# Altium integrated library Micron Memory Parallel NOR Flash.IntLib: 720 symbols (part 213 of 216)
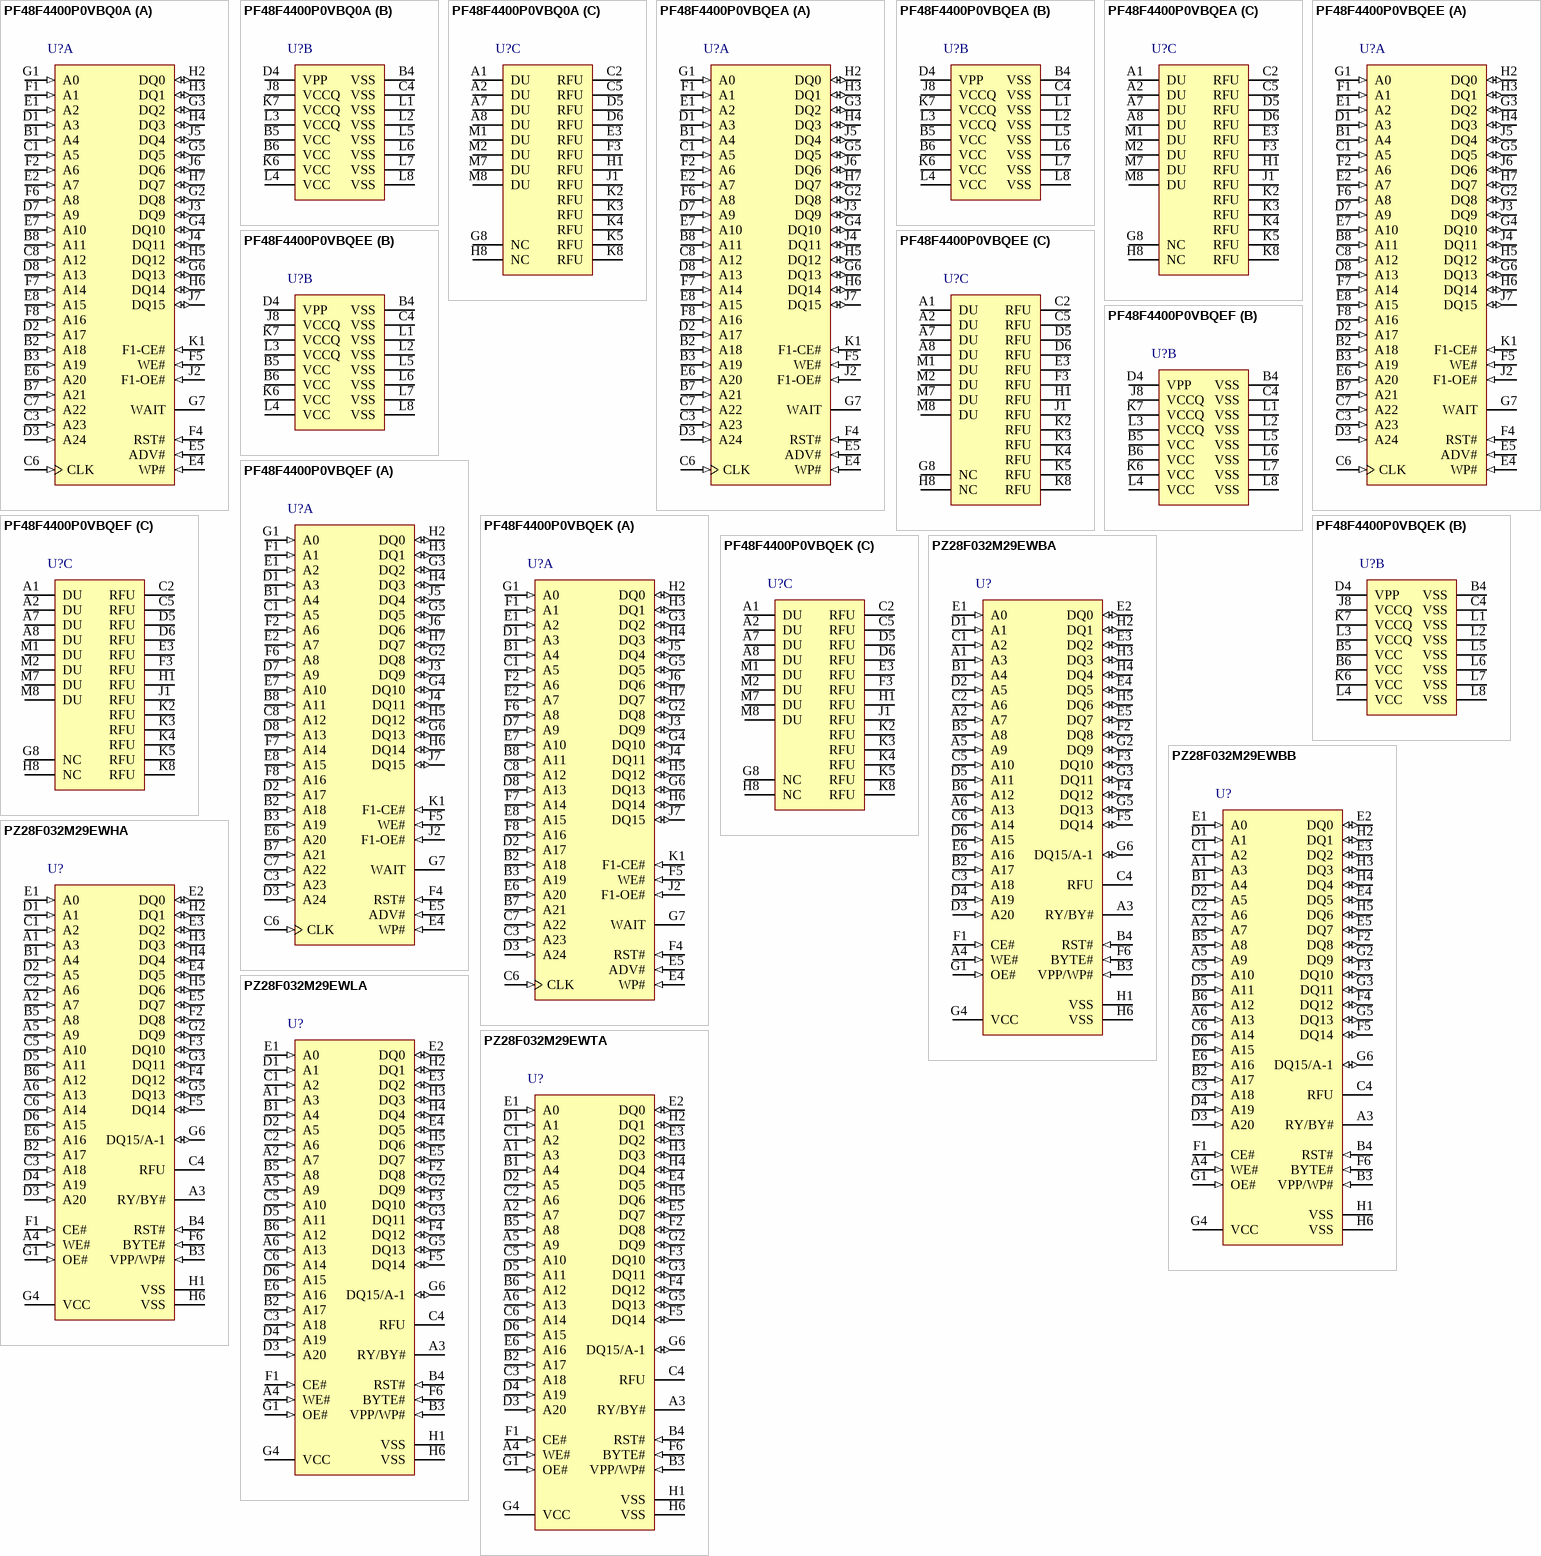
[diagram p242: symbols PF48F4400P0VBQ0A to PZ28F032M29EWTA]

## PF48F4400P0VBQ0A
designator U?
512 Mb (x16) Parallel NOR Flash Memory, 85 ns, 1.7 to 2.0 V, 88-ball Quad+ BGA (PF), Tray; Part Family: P30; Manufacturer: Micron; PartNumber: PF48F4400P0VBQ0A; Density: 512Mb; Op Temp: -40C to +85C; Speed: 85ns; Voltage: 1.7V-2.0V; DatasheetVersion: Rev. 12; PackageVersion: Rev. 12; PackageReference: MICT-PF-88-11000X8000X1200DEA; PackageDescription: 88-Ball Quad+ BGA, 11 x 8 mm, Pitch 0.8 mm; RoHS: Yes; Width: x16; Mounting Technology: Surface Mount; ComponentLink1Description: Manufacturer URL; ComponentLink1URL: http://www.micron.com/; ComponentLink2Description: Datasheet; ComponentLink2URL: http://www.micron.com/~/media/Documents/Products/Data%20Sheet/NOR%20Flash/Parallel/P33/320003_P33_65nm_MLC_256MDiscrete_512MStack_DS.pdf; ComponentLink3Description: Package Specification; ComponentLink3URL: http://www.micron.com/~/media/Documents/Products/Data%20Sheet/NOR%20Flash/Parallel/P33/320003_P33_65nm_MLC_256MDiscrete_512MStack_DS.pdf
footprint MICT-PF-88-11000X8000X1200DEA (BGA, 88-Balls, Body 11x8mm, Pitch 0.8mm)
part A pins: B1 A4 (in) "Address Input: Device Address Input. 64-Mbit: A[21:0]; 128-Mbit: A[22:0]; 256-Mbit:  A[23:0]; 512-Mbit: A[24:0]. Note: The virtual selection of the 256-Mbit "Top parameter" die in the  dual-die 512-Mbit configuration is (See Datasheet)", B2 A18 (in) "Address Input: Device Address Input. 64-Mbit: A[21:0]; 128-Mbit: A[22:0]; 256-Mbit:  A[23:0]; 512-Mbit: A[24:0]. Note: The virtual selection of the 256-Mbit "Top parameter" die in the  dual-die 512-Mbit configuration is (See Datasheet)", B3 A19 (in) "Address Input: Device Address Input. 64-Mbit: A[21:0]; 128-Mbit: A[22:0]; 256-Mbit:  A[23:0]; 512-Mbit: A[24:0]. Note: The virtual selection of the 256-Mbit "Top parameter" die in the  dual-die 512-Mbit configuration is (See Datasheet)", B7 A21 (in) "Address Input: Device Address Input. 64-Mbit: A[21:0]; 128-Mbit: A[22:0]; 256-Mbit:  A[23:0]; 512-Mbit: A[24:0]. Note: The virtual selection of the 256-Mbit "Top parameter" die in the  dual-die 512-Mbit configuration is (See Datasheet)", B8 A11 (in) "Address Input: Device Address Input. 64-Mbit: A[21:0]; 128-Mbit: A[22:0]; 256-Mbit:  A[23:0]; 512-Mbit: A[24:0]. Note: The virtual selection of the 256-Mbit "Top parameter" die in the  dual-die 512-Mbit configuration is (See Datasheet)", C1 A5 (in) "Address Input: Device Address Input. 64-Mbit: A[21:0]; 128-Mbit: A[22:0]; 256-Mbit:  A[23:0]; 512-Mbit: A[24:0]. Note: The virtual selection of the 256-Mbit "Top parameter" die in the  dual-die 512-Mbit configuration is (See Datasheet)", C3 A23 (in) "Address Input: Device Address Input. 64-Mbit: A[21:0]; 128-Mbit: A[22:0]; 256-Mbit:  A[23:0]; 512-Mbit: A[24:0]. Note: The virtual selection of the 256-Mbit "Top parameter" die in the  dual-die 512-Mbit configuration is (See Datasheet)", C6 CLK (in) "CLOCK: Synchronizes the device with the system’s bus frequency in synchronous-read mode. During  synchronous read operations, addresses are latched on the rising edge of ADV#, or on the next valid  CLK edge with ADV# low, (See Datasheet)", C7 A22 (in) "Address Input: Device Address Input. 64-Mbit: A[21:0]; 128-Mbit: A[22:0]; 256-Mbit:  A[23:0]; 512-Mbit: A[24:0]. Note: The virtual selection of the 256-Mbit "Top parameter" die in the  dual-die 512-Mbit configuration is (See Datasheet)", C8 A12 (in) "Address Input: Device Address Input. 64-Mbit: A[21:0]; 128-Mbit: A[22:0]; 256-Mbit:  A[23:0]; 512-Mbit: A[24:0]. Note: The virtual selection of the 256-Mbit "Top parameter" die in the  dual-die 512-Mbit configuration is (See Datasheet)", D1 A3 (in) "Address Input: Device Address Input. 64-Mbit: A[21:0]; 128-Mbit: A[22:0]; 256-Mbit:  A[23:0]; 512-Mbit: A[24:0]. Note: The virtual selection of the 256-Mbit "Top parameter" die in the  dual-die 512-Mbit configuration is (See Datasheet)", D2 A17 (in) "Address Input: Device Address Input. 64-Mbit: A[21:0]; 128-Mbit: A[22:0]; 256-Mbit:  A[23:0]; 512-Mbit: A[24:0]. Note: The virtual selection of the 256-Mbit "Top parameter" die in the  dual-die 512-Mbit configuration is (See Datasheet)", D3 A24 (in) "Address Input: Device Address Input. 64-Mbit: A[21:0]; 128-Mbit: A[22:0]; 256-Mbit:  A[23:0]; 512-Mbit: A[24:0]. Note: The virtual selection of the 256-Mbit "Top parameter" die in the  dual-die 512-Mbit configuration is (See Datasheet)", D7 A9 (in) "Address Input: Device Address Input. 64-Mbit: A[21:0]; 128-Mbit: A[22:0]; 256-Mbit:  A[23:0]; 512-Mbit: A[24:0]. Note: The virtual selection of the 256-Mbit "Top parameter" die in the  dual-die 512-Mbit configuration is (See Datasheet)", D8 A13 (in) "Address Input: Device Address Input. 64-Mbit: A[21:0]; 128-Mbit: A[22:0]; 256-Mbit:  A[23:0]; 512-Mbit: A[24:0]. Note: The virtual selection of the 256-Mbit "Top parameter" die in the  dual-die 512-Mbit configuration is (See Datasheet)", E1 A2 (in) "Address Input: Device Address Input. 64-Mbit: A[21:0]; 128-Mbit: A[22:0]; 256-Mbit:  A[23:0]; 512-Mbit: A[24:0]. Note: The virtual selection of the 256-Mbit "Top parameter" die in the  dual-die 512-Mbit configuration is (See Datasheet)", E2 A7 (in) "Address Input: Device Address Input. 64-Mbit: A[21:0]; 128-Mbit: A[22:0]; 256-Mbit:  A[23:0]; 512-Mbit: A[24:0]. Note: The virtual selection of the 256-Mbit "Top parameter" die in the  dual-die 512-Mbit configuration is (See Datasheet)", E4 WP# (in) "WRITE PROTECT: Active low input. WP# low enables the lock-down mechanism. Blocks in lockdown cannot be unlocked with the Unlock command. WP# high overrides the lock-down function  enabling blocks to be erased or programmed (See Datasheet)", E5 ADV# (in) "ADDRESS VALID: Active low input. During synchronous read operations, addresses are latched on  the rising edge of ADV#, or on the next valid CLK edge with ADV# low, whichever occurs first.  In asynchronous mode, the address (See Datasheet)", E6 A20 (in) "Address Input: Device Address Input. 64-Mbit: A[21:0]; 128-Mbit: A[22:0]; 256-Mbit:  A[23:0]; 512-Mbit: A[24:0]. Note: The virtual selection of the 256-Mbit "Top parameter" die in the  dual-die 512-Mbit configuration is (See Datasheet)", E7 A10 (in) "Address Input: Device Address Input. 64-Mbit: A[21:0]; 128-Mbit: A[22:0]; 256-Mbit:  A[23:0]; 512-Mbit: A[24:0]. Note: The virtual selection of the 256-Mbit "Top parameter" die in the  dual-die 512-Mbit configuration is (See Datasheet)", E8 A15 (in) "Address Input: Device Address Input. 64-Mbit: A[21:0]; 128-Mbit: A[22:0]; 256-Mbit:  A[23:0]; 512-Mbit: A[24:0]. Note: The virtual selection of the 256-Mbit "Top parameter" die in the  dual-die 512-Mbit configuration is (See Datasheet)", F1 A1 (in) "Address Input: Device Address Input. 64-Mbit: A[21:0]; 128-Mbit: A[22:0]; 256-Mbit:  A[23:0]; 512-Mbit: A[24:0]. Note: The virtual selection of the 256-Mbit "Top parameter" die in the  dual-die 512-Mbit configuration is (See Datasheet)", F2 A6 (in) "Address Input: Device Address Input. 64-Mbit: A[21:0]; 128-Mbit: A[22:0]; 256-Mbit:  A[23:0]; 512-Mbit: A[24:0]. Note: The virtual selection of the 256-Mbit "Top parameter" die in the  dual-die 512-Mbit configuration is (See Datasheet)", F4 RST# (in) "RESET: Active low input. RST# resets internal automation and inhibits write operations. This  provides data protection during power transitions. RST# high enables normal operation. Exit from  reset places the device in (See Datasheet)", F5 WE# (in) "WRITE ENABLE: Active low input. WE# controls writes to the device. Address and data are latched  on the rising edge of WE#.", F6 A8 (in) "Address Input: Device Address Input. 64-Mbit: A[21:0]; 128-Mbit: A[22:0]; 256-Mbit:  A[23:0]; 512-Mbit: A[24:0]. Note: The virtual selection of the 256-Mbit "Top parameter" die in the  dual-die 512-Mbit configuration is (See Datasheet)", F7 A14 (in) "Address Input: Device Address Input. 64-Mbit: A[21:0]; 128-Mbit: A[22:0]; 256-Mbit:  A[23:0]; 512-Mbit: A[24:0]. Note: The virtual selection of the 256-Mbit "Top parameter" die in the  dual-die 512-Mbit configuration is (See Datasheet)", F8 A16 (in) "Address Input: Device Address Input. 64-Mbit: A[21:0]; 128-Mbit: A[22:0]; 256-Mbit:  A[23:0]; 512-Mbit: A[24:0]. Note: The virtual selection of the 256-Mbit "Top parameter" die in the  dual-die 512-Mbit configuration is (See Datasheet)", G1 A0 (in) "Address Input: Device Address Input. 64-Mbit: A[21:0]; 128-Mbit: A[22:0]; 256-Mbit:  A[23:0]; 512-Mbit: A[24:0]. Note: The virtual selection of the 256-Mbit "Top parameter" die in the  dual-die 512-Mbit configuration is (See Datasheet)", G2 DQ8 (io) "DATA INPUT/OUTPUT: Inputs data and commands during write cycles; outputs data during  memory, Status Register, Protection Register, and Read Configuration Register reads. Data balls float  when the CE# or OE# are deasserted. (See Datasheet)", G3 DQ2 (io) "DATA INPUT/OUTPUT: Inputs data and commands during write cycles; outputs data during  memory, Status Register, Protection Register, and Read Configuration Register reads. Data balls float  when the CE# or OE# are deasserted. (See Datasheet)", G4 DQ10 (io) "DATA INPUT/OUTPUT: Inputs data and commands during write cycles; outputs data during  memory, Status Register, Protection Register, and Read Configuration Register reads. Data balls float  when the CE# or OE# are deasserted. (See Datasheet)", G5 DQ5 (io) "DATA INPUT/OUTPUT: Inputs data and commands during write cycles; outputs data during  memory, Status Register, Protection Register, and Read Configuration Register reads. Data balls float  when the CE# or OE# are deasserted. (See Datasheet)", G6 DQ13 (io) "DATA INPUT/OUTPUT: Inputs data and commands during write cycles; outputs data during  memory, Status Register, Protection Register, and Read Configuration Register reads. Data balls float  when the CE# or OE# are deasserted. (See Datasheet)", G7 WAIT (hiz) "WAIT: Indicates data valid in synchronous array or non-array burst reads. Read Configuration  Register bit 10 (RCR[10], WT) determines its polarity when asserted. WAIT’s active output is VOL  or  VOH when CE# and OE# are VIL (See Datasheet)", H2 DQ0 (io) "DATA INPUT/OUTPUT: Inputs data and commands during write cycles; outputs data during  memory, Status Register, Protection Register, and Read Configuration Register reads. Data balls float  when the CE# or OE# are deasserted. (See Datasheet)", H3 DQ1 (io) "DATA INPUT/OUTPUT: Inputs data and commands during write cycles; outputs data during  memory, Status Register, Protection Register, and Read Configuration Register reads. Data balls float  when the CE# or OE# are deasserted. (See Datasheet)", H4 DQ3 (io) "DATA INPUT/OUTPUT: Inputs data and commands during write cycles; outputs data during  memory, Status Register, Protection Register, and Read Configuration Register reads. Data balls float  when the CE# or OE# are deasserted. (See Datasheet)", H5 DQ12 (io) "DATA INPUT/OUTPUT: Inputs data and commands during write cycles; outputs data during  memory, Status Register, Protection Register, and Read Configuration Register reads. Data balls float  when the CE# or OE# are deasserted. (See Datasheet)", H6 DQ14 (io) "DATA INPUT/OUTPUT: Inputs data and commands during write cycles; outputs data during  memory, Status Register, Protection Register, and Read Configuration Register reads. Data balls float  when the CE# or OE# are deasserted. (See Datasheet)", H7 DQ7 (io) "DATA INPUT/OUTPUT: Inputs data and commands during write cycles; outputs data during  memory, Status Register, Protection Register, and Read Configuration Register reads. Data balls float  when the CE# or OE# are deasserted. (See Datasheet)", J2 F1-OE# (in) "FLASH CHIP ENABLE: Active low input. CE# low selects the associated flash memory die. When  asserted, flash internal control logic, input buffers, decoders, and sense amplifiers are active. When  deasserted, the associated (See Datasheet)", J3 DQ9 (io) "DATA INPUT/OUTPUT: Inputs data and commands during write cycles; outputs data during  memory, Status Register, Protection Register, and Read Configuration Register reads. Data balls float  when the CE# or OE# are deasserted. (See Datasheet)", J4 DQ11 (io) "DATA INPUT/OUTPUT: Inputs data and commands during write cycles; outputs data during  memory, Status Register, Protection Register, and Read Configuration Register reads. Data balls float  when the CE# or OE# are deasserted. (See Datasheet)", J5 DQ4 (io) "DATA INPUT/OUTPUT: INPUT data and commands during write cycles; OUTPUT data during  memory, Status Register, Protection Register, and Read Configuration Register reads. Data balls float  when the CE# or OE# are deasserted. (See Datasheet)", J6 DQ6 (io) "DATA INPUT/OUTPUT: Inputs data and commands during write cycles; outputs data during  memory, Status Register, Protection Register, and Read Configuration Register reads. Data balls float  when the CE# or OE# are deasserted. (See Datasheet)", J7 DQ15 (io) "DATA INPUT/OUTPUT: Inputs data and commands during write cycles; outputs data during  memory, Status Register, Protection Register, and Read Configuration Register reads. Data balls float  when the CE# or OE# are deasserted. (See Datasheet)", K1 F1-CE# (in) "FLASH CHIP ENABLE: Active low input. CE# low selects the associated flash memory die. When  asserted, flash internal control logic, input buffers, decoders, and sense amplifiers are active. When  deasserted, the associated (See Datasheet)"
part B pins: B4 VSS (power) "Ground: Connect to system ground. Do not float any VSS connection.", B5 VCC (power) "Device Core Power Supply: Core (logic) source voltage. Writes to the flash array are inhibited  when VCC =< VLKO. Operations at invalid VCC voltages should not be attempted.", B6 VCC (power) "Device Core Power Supply: Core (logic) source voltage. Writes to the flash array are inhibited  when VCC =< VLKO. Operations at invalid VCC voltages should not be attempted.", C4 VSS (power) "Ground: Connect to system ground. Do not float any VSS connection.", D4 VPP (power) "Erase and Program Power: A valid voltage on this pin allows erasing or programming. Memory  contents cannot be altered when VPP =< VPPLK. Block erase and program at invalid VPP voltages should  not be attempted. Set VPP  = (See Datasheet)", J8 VCCQ (power) "Output Power Supply: Output-driver source voltage.", K6 VCC (power) "Device Core Power Supply: Core (logic) source voltage. Writes to the flash array are inhibited  when VCC =< VLKO. Operations at invalid VCC voltages should not be attempted.", K7 VCCQ (power) "Output Power Supply: Output-driver source voltage.", L1 VSS (power) "Ground: Connect to system ground. Do not float any VSS connection.", L2 VSS (power) "Ground: Connect to system ground. Do not float any VSS connection.", L3 VCCQ (power) "Output Power Supply: Output-driver source voltage.", L4 VCC (power) "Device Core Power Supply: Core (logic) source voltage. Writes to the flash array are inhibited  when VCC =< VLKO. Operations at invalid VCC voltages should not be attempted.", L5 VSS (power) "Ground: Connect to system ground. Do not float any VSS connection.", L6 VSS (power) "Ground: Connect to system ground. Do not float any VSS connection.", L7 VSS (power) "Ground: Connect to system ground. Do not float any VSS connection.", L8 VSS (power) "Ground: Connect to system ground. Do not float any VSS connection."
part C pins: A1 DU "Do Not Use: Do not connect to any other signal, or power supply; must be left floating.", A2 DU "Do Not Use: Do not connect to any other signal, or power supply; must be left floating.", A7 DU "Do Not Use: Do not connect to any other signal, or power supply; must be left floating.", A8 DU "Do Not Use: Do not connect to any other signal, or power supply; must be left floating.", C2 RFU "Reserved for Future Use: Reserved by Numonyx for future device functionality and enhancement.  These should be treated in the same way as a Do Not Use (DU) signal.", C5 RFU "Reserved for Future Use: Reserved by Numonyx for future device functionality and enhancement.  These should be treated in the same way as a Do Not Use (DU) signal.", D5 RFU "Reserved for Future Use: Reserved by Numonyx for future device functionality and enhancement.  These should be treated in the same way as a Do Not Use (DU) signal.", D6 RFU "Reserved for Future Use: Reserved by Numonyx for future device functionality and enhancement.", E3 RFU "Reserved for Future Use: Reserved by Numonyx for future device functionality and enhancement.  These should be treated in the same way as a Do Not Use (DU) signal.", F3 RFU "Reserved for Future Use: Reserved by Numonyx for future device functionality and enhancement.  These should be treated in the same way as a Do Not Use (DU) signal.", G8 NC "No Connect: No internal connection; can be driven or floated.", H1 RFU "Reserved for Future Use: Reserved by Numonyx for future device functionality and enhancement.  These should be treated in the same way as a Do Not Use (DU) signal.", H8 NC "No Connect: No internal connection; can be driven or floated.", J1 RFU "Reserved for Future Use: Reserved by Numonyx for future device functionality and enhancement.  These should be treated in the same way as a Do Not Use (DU) signal.", K2 RFU "Reserved for Future Use: Reserved by Numonyx for future device functionality and enhancement.  These should be treated in the same way as a Do Not Use (DU) signal.", K3 RFU "Reserved for Future Use: Reserved by Numonyx for future device functionality and enhancement.  These should be treated in the same way as a Do Not Use (DU) signal.", K4 RFU "Reserved for Future Use: Reserved by Numonyx for future device functionality and enhancement.  These should be treated in the same way as a Do Not Use (DU) signal.", K5 RFU "Reserved for Future Use: Reserved by Numonyx for future device functionality and enhancement.  These should be treated in the same way as a Do Not Use (DU) signal.", K8 RFU "Reserved for Future Use: Reserved by Numonyx for future device functionality and enhancement.  These should be treated in the same way as a Do Not Use (DU) signal.", M1 DU "Do Not Use: Do not connect to any other signal, or power supply; must be left floating.", M2 DU "Do Not Use: Do not connect to any other signal, or power supply; must be left floating.", M7 DU "Do Not Use: Do not connect to any other signal, or power supply; must be left floating.", M8 DU "Do Not Use: Do not connect to any other signal, or power supply; must be left floating."

## PF48F4400P0VBQEA
designator U?
512 Mb (x16) Parallel NOR Flash Memory, 100 ns, 1.7 to 2.0 V, 88-ball Quad+ BGA (PF), Tray; Part Family: P30; Manufacturer: Micron; PartNumber: PF48F4400P0VBQEA; Density: 512Mb; Op Temp: -40C to +85C; Speed: 100ns; Voltage: 1.7V-2.0V; DatasheetVersion: Rev. 11; PackageVersion: Rev. 12; PackageReference: MICT-PF-88-11000X8000X1200DEA; PackageDescription: 88-Ball Quad+ BGA, 11 x 8 mm, Pitch 0.8 mm; RoHS: Yes; Width: x16; Mounting Technology: Surface Mount; ComponentLink1Description: Manufacturer URL; ComponentLink1URL: http://www.micron.com/; ComponentLink2Description: Datasheet; ComponentLink2URL: http://www.micron.com/~/media/Documents/Products/Data%20Sheet/NOR%20Flash/Parallel/P30/320002_P30_65nm_MLC_256MDiscrete_512MStack_DS.pdf; ComponentLink3Description: Package Specification; ComponentLink3URL: http://www.micron.com/~/media/Documents/Products/Data%20Sheet/NOR%20Flash/Parallel/P33/320003_P33_65nm_MLC_256MDiscrete_512MStack_DS.pdf
footprint MICT-PF-88-11000X8000X1200DEA (BGA, 88-Balls, Body 11x8mm, Pitch 0.8mm)
part A pins: B1 A4 (in) "Address Input: Device Address Input. 64-Mbit: A[21:0]; 128-Mbit: A[22:0]; 256-Mbit:  A[23:0]; 512-Mbit: A[24:0]. Note: The virtual selection of the 256-Mbit "Top parameter" die in the  dual-die 512-Mbit configuration is (See Datasheet)", B2 A18 (in) "Address Input: Device Address Input. 64-Mbit: A[21:0]; 128-Mbit: A[22:0]; 256-Mbit:  A[23:0]; 512-Mbit: A[24:0]. Note: The virtual selection of the 256-Mbit "Top parameter" die in the  dual-die 512-Mbit configuration is (See Datasheet)", B3 A19 (in) "Address Input: Device Address Input. 64-Mbit: A[21:0]; 128-Mbit: A[22:0]; 256-Mbit:  A[23:0]; 512-Mbit: A[24:0]. Note: The virtual selection of the 256-Mbit "Top parameter" die in the  dual-die 512-Mbit configuration is (See Datasheet)", B7 A21 (in) "Address Input: Device Address Input. 64-Mbit: A[21:0]; 128-Mbit: A[22:0]; 256-Mbit:  A[23:0]; 512-Mbit: A[24:0]. Note: The virtual selection of the 256-Mbit "Top parameter" die in the  dual-die 512-Mbit configuration is (See Datasheet)", B8 A11 (in) "Address Input: Device Address Input. 64-Mbit: A[21:0]; 128-Mbit: A[22:0]; 256-Mbit:  A[23:0]; 512-Mbit: A[24:0]. Note: The virtual selection of the 256-Mbit "Top parameter" die in the  dual-die 512-Mbit configuration is (See Datasheet)", C1 A5 (in) "Address Input: Device Address Input. 64-Mbit: A[21:0]; 128-Mbit: A[22:0]; 256-Mbit:  A[23:0]; 512-Mbit: A[24:0]. Note: The virtual selection of the 256-Mbit "Top parameter" die in the  dual-die 512-Mbit configuration is (See Datasheet)", C3 A23 (in) "Address Input: Device Address Input. 64-Mbit: A[21:0]; 128-Mbit: A[22:0]; 256-Mbit:  A[23:0]; 512-Mbit: A[24:0]. Note: The virtual selection of the 256-Mbit "Top parameter" die in the  dual-die 512-Mbit configuration is (See Datasheet)", C6 CLK (in) "CLOCK: Synchronizes the device with the system’s bus frequency in synchronous-read mode. During  synchronous read operations, addresses are latched on the rising edge of ADV#, or on the next valid  CLK edge with ADV# low, (See Datasheet)", C7 A22 (in) "Address Input: Device Address Input. 64-Mbit: A[21:0]; 128-Mbit: A[22:0]; 256-Mbit:  A[23:0]; 512-Mbit: A[24:0]. Note: The virtual selection of the 256-Mbit "Top parameter" die in the  dual-die 512-Mbit configuration is (See Datasheet)", C8 A12 (in) "Address Input: Device Address Input. 64-Mbit: A[21:0]; 128-Mbit: A[22:0]; 256-Mbit:  A[23:0]; 512-Mbit: A[24:0]. Note: The virtual selection of the 256-Mbit "Top parameter" die in the  dual-die 512-Mbit configuration is (See Datasheet)", D1 A3 (in) "Address Input: Device Address Input. 64-Mbit: A[21:0]; 128-Mbit: A[22:0]; 256-Mbit:  A[23:0]; 512-Mbit: A[24:0]. Note: The virtual selection of the 256-Mbit "Top parameter" die in the  dual-die 512-Mbit configuration is (See Datasheet)", D2 A17 (in) "Address Input: Device Address Input. 64-Mbit: A[21:0]; 128-Mbit: A[22:0]; 256-Mbit:  A[23:0]; 512-Mbit: A[24:0]. Note: The virtual selection of the 256-Mbit "Top parameter" die in the  dual-die 512-Mbit configuration is (See Datasheet)", D3 A24 (in) "Address Input: Device Address Input. 64-Mbit: A[21:0]; 128-Mbit: A[22:0]; 256-Mbit:  A[23:0]; 512-Mbit: A[24:0]. Note: The virtual selection of the 256-Mbit "Top parameter" die in the  dual-die 512-Mbit configuration is (See Datasheet)", D7 A9 (in) "Address Input: Device Address Input. 64-Mbit: A[21:0]; 128-Mbit: A[22:0]; 256-Mbit:  A[23:0]; 512-Mbit: A[24:0]. Note: The virtual selection of the 256-Mbit "Top parameter" die in the  dual-die 512-Mbit configuration is (See Datasheet)", D8 A13 (in) "Address Input: Device Address Input. 64-Mbit: A[21:0]; 128-Mbit: A[22:0]; 256-Mbit:  A[23:0]; 512-Mbit: A[24:0]. Note: The virtual selection of the 256-Mbit "Top parameter" die in the  dual-die 512-Mbit configuration is (See Datasheet)", E1 A2 (in) "Address Input: Device Address Input. 64-Mbit: A[21:0]; 128-Mbit: A[22:0]; 256-Mbit:  A[23:0]; 512-Mbit: A[24:0]. Note: The virtual selection of the 256-Mbit "Top parameter" die in the  dual-die 512-Mbit configuration is (See Datasheet)", E2 A7 (in) "Address Input: Device Address Input. 64-Mbit: A[21:0]; 128-Mbit: A[22:0]; 256-Mbit:  A[23:0]; 512-Mbit: A[24:0]. Note: The virtual selection of the 256-Mbit "Top parameter" die in the  dual-die 512-Mbit configuration is (See Datasheet)", E4 WP# (in) "WRITE PROTECT: Active low input. WP# low enables the lock-down mechanism. Blocks in lockdown cannot be unlocked with the Unlock command. WP# high overrides the lock-down function  enabling blocks to be erased or programmed (See Datasheet)", E5 ADV# (in) "ADDRESS VALID: Active low input. During synchronous read operations, addresses are latched on  the rising edge of ADV#, or on the next valid CLK edge with ADV# low, whichever occurs first.  In asynchronous mode, the address (See Datasheet)", E6 A20 (in) "Address Input: Device Address Input. 64-Mbit: A[21:0]; 128-Mbit: A[22:0]; 256-Mbit:  A[23:0]; 512-Mbit: A[24:0]. Note: The virtual selection of the 256-Mbit "Top parameter" die in the  dual-die 512-Mbit configuration is (See Datasheet)", E7 A10 (in) "Address Input: Device Address Input. 64-Mbit: A[21:0]; 128-Mbit: A[22:0]; 256-Mbit:  A[23:0]; 512-Mbit: A[24:0]. Note: The virtual selection of the 256-Mbit "Top parameter" die in the  dual-die 512-Mbit configuration is (See Datasheet)", E8 A15 (in) "Address Input: Device Address Input. 64-Mbit: A[21:0]; 128-Mbit: A[22:0]; 256-Mbit:  A[23:0]; 512-Mbit: A[24:0]. Note: The virtual selection of the 256-Mbit "Top parameter" die in the  dual-die 512-Mbit configuration is (See Datasheet)", F1 A1 (in) "Address Input: Device Address Input. 64-Mbit: A[21:0]; 128-Mbit: A[22:0]; 256-Mbit:  A[23:0]; 512-Mbit: A[24:0]. Note: The virtual selection of the 256-Mbit "Top parameter" die in the  dual-die 512-Mbit configuration is (See Datasheet)", F2 A6 (in) "Address Input: Device Address Input. 64-Mbit: A[21:0]; 128-Mbit: A[22:0]; 256-Mbit:  A[23:0]; 512-Mbit: A[24:0]. Note: The virtual selection of the 256-Mbit "Top parameter" die in the  dual-die 512-Mbit configuration is (See Datasheet)", F4 RST# (in) "RESET: Active low input. RST# resets internal automation and inhibits write operations. This  provides data protection during power transitions. RST# high enables normal operation. Exit from  reset places the device in (See Datasheet)", F5 WE# (in) "WRITE ENABLE: Active low input. WE# controls writes to the device. Address and data are latched  on the rising edge of WE#.", F6 A8 (in) "Address Input: Device Address Input. 64-Mbit: A[21:0]; 128-Mbit: A[22:0]; 256-Mbit:  A[23:0]; 512-Mbit: A[24:0]. Note: The virtual selection of the 256-Mbit "Top parameter" die in the  dual-die 512-Mbit configuration is (See Datasheet)", F7 A14 (in) "Address Input: Device Address Input. 64-Mbit: A[21:0]; 128-Mbit: A[22:0]; 256-Mbit:  A[23:0]; 512-Mbit: A[24:0]. Note: The virtual selection of the 256-Mbit "Top parameter" die in the  dual-die 512-Mbit configuration is (See Datasheet)", F8 A16 (in) "Address Input: Device Address Input. 64-Mbit: A[21:0]; 128-Mbit: A[22:0]; 256-Mbit:  A[23:0]; 512-Mbit: A[24:0]. Note: The virtual selection of the 256-Mbit "Top parameter" die in the  dual-die 512-Mbit configuration is (See Datasheet)", G1 A0 (in) "Address Input: Device Address Input. 64-Mbit: A[21:0]; 128-Mbit: A[22:0]; 256-Mbit:  A[23:0]; 512-Mbit: A[24:0]. Note: The virtual selection of the 256-Mbit "Top parameter" die in the  dual-die 512-Mbit configuration is (See Datasheet)", G2 DQ8 (io) "DATA INPUT/OUTPUT: Inputs data and commands during write cycles; outputs data during  memory, Status Register, Protection Register, and Read Configuration Register reads. Data balls float  when the CE# or OE# are deasserted. (See Datasheet)", G3 DQ2 (io) "DATA INPUT/OUTPUT: Inputs data and commands during write cycles; outputs data during  memory, Status Register, Protection Register, and Read Configuration Register reads. Data balls float  when the CE# or OE# are deasserted. (See Datasheet)", G4 DQ10 (io) "DATA INPUT/OUTPUT: Inputs data and commands during write cycles; outputs data during  memory, Status Register, Protection Register, and Read Configuration Register reads. Data balls float  when the CE# or OE# are deasserted. (See Datasheet)", G5 DQ5 (io) "DATA INPUT/OUTPUT: Inputs data and commands during write cycles; outputs data during  memory, Status Register, Protection Register, and Read Configuration Register reads. Data balls float  when the CE# or OE# are deasserted. (See Datasheet)", G6 DQ13 (io) "DATA INPUT/OUTPUT: Inputs data and commands during write cycles; outputs data during  memory, Status Register, Protection Register, and Read Configuration Register reads. Data balls float  when the CE# or OE# are deasserted. (See Datasheet)", G7 WAIT (hiz) "WAIT: Indicates data valid in synchronous array or non-array burst reads. Read Configuration  Register bit 10 (RCR[10], WT) determines its polarity when asserted. WAIT’s active output is VOL  or  VOH when CE# and OE# are VIL (See Datasheet)", H2 DQ0 (io) "DATA INPUT/OUTPUT: Inputs data and commands during write cycles; outputs data during  memory, Status Register, Protection Register, and Read Configuration Register reads. Data balls float  when the CE# or OE# are deasserted. (See Datasheet)", H3 DQ1 (io) "DATA INPUT/OUTPUT: Inputs data and commands during write cycles; outputs data during  memory, Status Register, Protection Register, and Read Configuration Register reads. Data balls float  when the CE# or OE# are deasserted. (See Datasheet)", H4 DQ3 (io) "DATA INPUT/OUTPUT: Inputs data and commands during write cycles; outputs data during  memory, Status Register, Protection Register, and Read Configuration Register reads. Data balls float  when the CE# or OE# are deasserted. (See Datasheet)", H5 DQ12 (io) "DATA INPUT/OUTPUT: Inputs data and commands during write cycles; outputs data during  memory, Status Register, Protection Register, and Read Configuration Register reads. Data balls float  when the CE# or OE# are deasserted. (See Datasheet)", H6 DQ14 (io) "DATA INPUT/OUTPUT: Inputs data and commands during write cycles; outputs data during  memory, Status Register, Protection Register, and Read Configuration Register reads. Data balls float  when the CE# or OE# are deasserted. (See Datasheet)", H7 DQ7 (io) "DATA INPUT/OUTPUT: Inputs data and commands during write cycles; outputs data during  memory, Status Register, Protection Register, and Read Configuration Register reads. Data balls float  when the CE# or OE# are deasserted. (See Datasheet)", J2 F1-OE# (in) "FLASH CHIP ENABLE: Active low input. CE# low selects the associated flash memory die. When  asserted, flash internal control logic, input buffers, decoders, and sense amplifiers are active. When  deasserted, the associated (See Datasheet)", J3 DQ9 (io) "DATA INPUT/OUTPUT: Inputs data and commands during write cycles; outputs data during  memory, Status Register, Protection Register, and Read Configuration Register reads. Data balls float  when the CE# or OE# are deasserted. (See Datasheet)", J4 DQ11 (io) "DATA INPUT/OUTPUT: Inputs data and commands during write cycles; outputs data during  memory, Status Register, Protection Register, and Read Configuration Register reads. Data balls float  when the CE# or OE# are deasserted. (See Datasheet)", J5 DQ4 (io) "DATA INPUT/OUTPUT: INPUT data and commands during write cycles; OUTPUT data during  memory, Status Register, Protection Register, and Read Configuration Register reads. Data balls float  when the CE# or OE# are deasserted. (See Datasheet)", J6 DQ6 (io) "DATA INPUT/OUTPUT: Inputs data and commands during write cycles; outputs data during  memory, Status Register, Protection Register, and Read Configuration Register reads. Data balls float  when the CE# or OE# are deasserted. (See Datasheet)", J7 DQ15 (io) "DATA INPUT/OUTPUT: Inputs data and commands during write cycles; outputs data during  memory, Status Register, Protection Register, and Read Configuration Register reads. Data balls float  when the CE# or OE# are deasserted. (See Datasheet)", K1 F1-CE# (in) "FLASH CHIP ENABLE: Active low input. CE# low selects the associated flash memory die. When  asserted, flash internal control logic, input buffers, decoders, and sense amplifiers are active. When  deasserted, the associated (See Datasheet)"
part B pins: B4 VSS (power) "Ground: Connect to system ground. Do not float any VSS connection.", B5 VCC (power) "Device Core Power Supply: Core (logic) source voltage. Writes to the flash array are inhibited  when VCC =< VLKO. Operations at invalid VCC voltages should not be attempted.", B6 VCC (power) "Device Core Power Supply: Core (logic) source voltage. Writes to the flash array are inhibited  when VCC =< VLKO. Operations at invalid VCC voltages should not be attempted.", C4 VSS (power) "Ground: Connect to system ground. Do not float any VSS connection.", D4 VPP (power) "Erase and Program Power: A valid voltage on this pin allows erasing or programming. Memory  contents cannot be altered when VPP =< VPPLK. Block erase and program at invalid VPP voltages should  not be attempted. Set VPP  = (See Datasheet)", J8 VCCQ (power) "Output Power Supply: Output-driver source voltage.", K6 VCC (power) "Device Core Power Supply: Core (logic) source voltage. Writes to the flash array are inhibited  when VCC =< VLKO. Operations at invalid VCC voltages should not be attempted.", K7 VCCQ (power) "Output Power Supply: Output-driver source voltage.", L1 VSS (power) "Ground: Connect to system ground. Do not float any VSS connection.", L2 VSS (power) "Ground: Connect to system ground. Do not float any VSS connection.", L3 VCCQ (power) "Output Power Supply: Output-driver source voltage.", L4 VCC (power) "Device Core Power Supply: Core (logic) source voltage. Writes to the flash array are inhibited  when VCC =< VLKO. Operations at invalid VCC voltages should not be attempted.", L5 VSS (power) "Ground: Connect to system ground. Do not float any VSS connection.", L6 VSS (power) "Ground: Connect to system ground. Do not float any VSS connection.", L7 VSS (power) "Ground: Connect to system ground. Do not float any VSS connection.", L8 VSS (power) "Ground: Connect to system ground. Do not float any VSS connection."
part C pins: A1 DU "Do Not Use: Do not connect to any other signal, or power supply; must be left floating.", A2 DU "Do Not Use: Do not connect to any other signal, or power supply; must be left floating.", A7 DU "Do Not Use: Do not connect to any other signal, or power supply; must be left floating.", A8 DU "Do Not Use: Do not connect to any other signal, or power supply; must be left floating.", C2 RFU "Reserved for Future Use: Reserved by Numonyx for future device functionality and enhancement.  These should be treated in the same way as a Do Not Use (DU) signal.", C5 RFU "Reserved for Future Use: Reserved by Numonyx for future device functionality and enhancement.  These should be treated in the same way as a Do Not Use (DU) signal.", D5 RFU "Reserved for Future Use: Reserved by Numonyx for future device functionality and enhancement.  These should be treated in the same way as a Do Not Use (DU) signal.", D6 RFU "Reserved for Future Use: Reserved by Numonyx for future device functionality and enhancement.", E3 RFU "Reserved for Future Use: Reserved by Numonyx for future device functionality and enhancement.  These should be treated in the same way as a Do Not Use (DU) signal.", F3 RFU "Reserved for Future Use: Reserved by Numonyx for future device functionality and enhancement.  These should be treated in the same way as a Do Not Use (DU) signal.", G8 NC "No Connect: No internal connection; can be driven or floated.", H1 RFU "Reserved for Future Use: Reserved by Numonyx for future device functionality and enhancement.  These should be treated in the same way as a Do Not Use (DU) signal.", H8 NC "No Connect: No internal connection; can be driven or floated.", J1 RFU "Reserved for Future Use: Reserved by Numonyx for future device functionality and enhancement.  These should be treated in the same way as a Do Not Use (DU) signal.", K2 RFU "Reserved for Future Use: Reserved by Numonyx for future device functionality and enhancement.  These should be treated in the same way as a Do Not Use (DU) signal.", K3 RFU "Reserved for Future Use: Reserved by Numonyx for future device functionality and enhancement.  These should be treated in the same way as a Do Not Use (DU) signal.", K4 RFU "Reserved for Future Use: Reserved by Numonyx for future device functionality and enhancement.  These should be treated in the same way as a Do Not Use (DU) signal.", K5 RFU "Reserved for Future Use: Reserved by Numonyx for future device functionality and enhancement.  These should be treated in the same way as a Do Not Use (DU) signal.", K8 RFU "Reserved for Future Use: Reserved by Numonyx for future device functionality and enhancement.  These should be treated in the same way as a Do Not Use (DU) signal.", M1 DU "Do Not Use: Do not connect to any other signal, or power supply; must be left floating.", M2 DU "Do Not Use: Do not connect to any other signal, or power supply; must be left floating.", M7 DU "Do Not Use: Do not connect to any other signal, or power supply; must be left floating.", M8 DU "Do Not Use: Do not connect to any other signal, or power supply; must be left floating."